# Altium footprint library Power_U.PcbLib: 1 footprints
Each footprint in its own frame and in the unit in brackets; x right, y up, seen from the top. Pads: shape width x height; smd on the part's side, far side on the other; paste and mask are expansions set on the pad; w line width, h text height; cw(c..) or ccw(c..) is an arc to the next point about the centre after c.
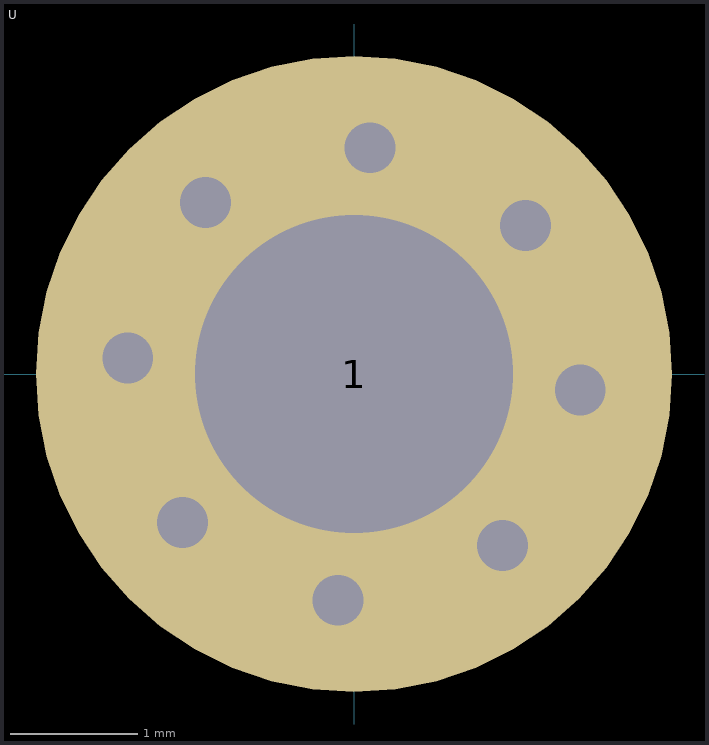
[diagram p0: the footprint, top view; thin cyan lines are the x and y axes]

## U [mm]
pads (1):
  round 5 hole 2.5: 1(0,0)
via 0.127,1.778 diameter 0.5 hole 0.4
via -1.167,1.347 diameter 0.5 hole 0.4
via -1.778,0.127 diameter 0.5 hole 0.4
via -1.347,-1.167 diameter 0.5 hole 0.4
via -0.127,-1.778 diameter 0.5 hole 0.4
via 1.167,-1.347 diameter 0.5 hole 0.4
via 1.778,-0.127 diameter 0.5 hole 0.4
via 1.347,1.167 diameter 0.5 hole 0.4